# EAGLE library part ESP-WROOM32 (library we-chip)
Espressif ESP-WROOM-32 ESP32 WiFi/WLAN + Bluetooth/BLE Module Compatible with AI-Thinker ESP-32S Module.
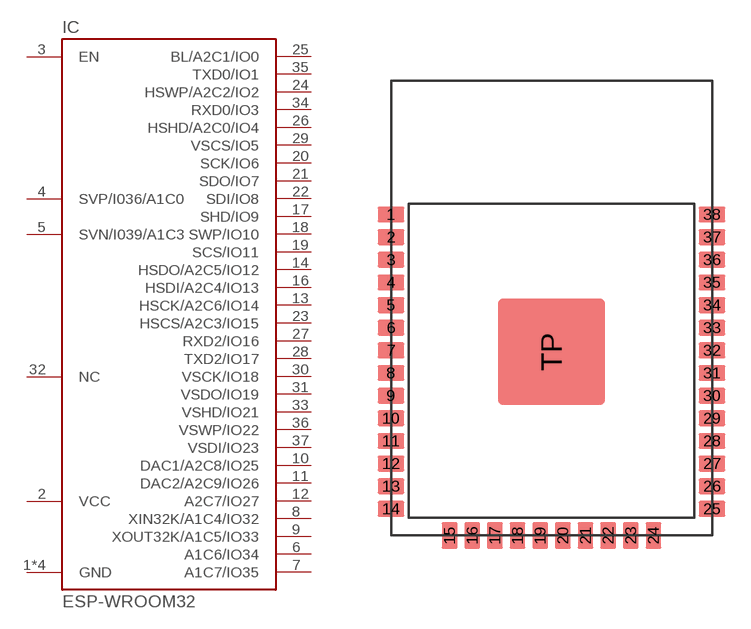
[diagram p40: symbol with the pads of ESP-WROOM32; footprint ESP-WROOM32]

Designator prefix IC

## ESP-WROOM32  [ESP-WROOM32]
1  GND  pwr
2  VCC  pwr
3  EN
4  SVP/I036/A1C0
5  SVN/I039/A1C3
6  A1C6/IO34
7  A1C7/IO35
8  XIN32K/A1C4/IO32
9  XOUT32K/A1C5/IO33
10  DAC1/A2C8/IO25
11  DAC2/A2C9/IO26
12  A2C7/IO27
13  HSCK/A2C6/IO14
14  HSDO/A2C5/IO12
15  GND  pwr
16  HSDI/A2C4/IO13
17  SHD/IO9
18  SWP/IO10
19  SCS/IO11
20  SCK/IO6
21  SDO/IO7
22  SDI/IO8
23  HSCS/A2C3/IO15
24  HSWP/A2C2/IO2
25  BL/A2C1/IO0
26  HSHD/A2C0/IO4
27  RXD2/IO16
28  TXD2/IO17
29  VSCS/IO5
30  VSCK/IO18
31  VSDO/IO19
32  NC
33  VSHD/IO21
34  RXD0/IO3
35  TXD0/IO1
36  VSWP/IO22
37  VSDI/IO23
38  GND  pwr
TP  GND  pwr

## Footprint ESP-WROOM32 (pad centres in mm)
smd 1.5 x 0.9: 1 -9,7; 2 -9,5.73; 3 -9,4.46; 4 -9,3.19; 5 -9,1.92; 6 -9,0.65; 7 -9,-0.62; 8 -9,-1.89; 9 -9,-3.16; 10 -9,-4.43; 11 -9,-5.7; 12 -9,-6.97; 13 -9,-8.24; 14 -9,-9.51; 25 9,-9.51; 26 9,-8.24; 27 9,-6.97; 28 9,-5.7; 29 9,-4.43; 30 9,-3.16; 31 9,-1.89; 32 9,-0.62; 33 9,0.65; 34 9,1.92; 35 9,3.19; 36 9,4.46; 37 9,5.73; 38 9,7
smd 0.9 x 1.5: 15 -5.715,-11; 16 -4.445,-11; 17 -3.175,-11; 18 -1.905,-11; 19 -0.635,-11; 20 0.635,-11; 21 1.905,-11; 22 3.175,-11; 23 4.445,-11; 24 5.715,-11
smd 6 x 6: TP 0,-0.7